# Altium schematic symbol library UPM.SchLib: 1 symbol
Pins are listed as number, name and electrical type; pins without a type are passive.

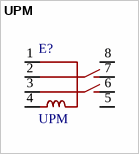
[diagram p0: symbol UPM]

## UPM
designator E?
pins: 1, 2, 3, 4, 5, 6, 7, 8